# EAGLE library part 62000711622 (library Wurth_Elektronik_Electromechanic_Wire_to_Board_Connectors_rev16a)
WR-WTB 2.00mm Male Vertical Shrouded Header, 7 Pins=>Code : Con_WTB_2.00_PCB_THT_62000711622 <http://katalog.we-online.de/media/thumbs2/eican/thb_Con_WTB_2.00_PCB_THT_6200xx11622_pf2.jpg> Details see: http://katalog.we-online.de/en/em/620_0xx_116_22 Created 2014-06-05, Karrer Zheng 2014 (C) Würth Elektronik
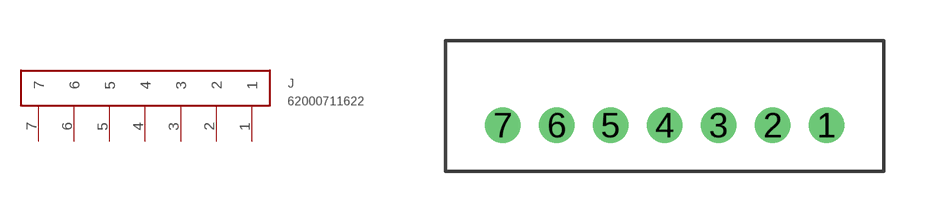
[diagram p26: symbol with the pads of 62000711622; footprint 62000711622]

Designator prefix J

## 62000711622  [62000711622]
1  1  pas
2  2  pas
3  3  pas
4  4  pas
5  5  pas
6  6  pas
7  7  pas

## Footprint 62000711622 (pad centres in mm)
WR-WTB 2.00mm Male Vertical Shrouded Header, 7 Pins
drill 0.8: 1 1,0; 2 -1,0; 3 -3,0; 4 -5,0; 5 -7,0; 6 -9,0; 7 -11,0